# Altium schematic symbol library SIM0424-6-0-26-01-A.SchLib: 1 symbol
Pins are listed as number, name and electrical type; pins without a type are passive.

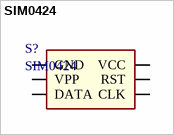
[diagram p0: symbol SIM0424]

## SIM0424
designator S?
Sim Socket SIM0424; DataSheet: http://www.farnell.com/datasheets/1796466.pdf
footprint SIM0424 (Sim Holder SIM0424)
pins: 1 VCC (power), 2 RST, 3 CLK, 4 GND (power), 5 VPP, 6 DATA (io)